# EAGLE library part ESB-33535A (library DPDTSwitch)
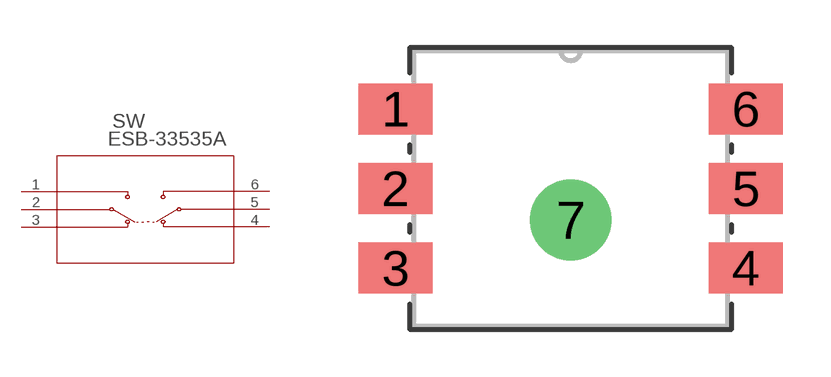
[diagram p0: symbol with the pads of ESB335_PAN; footprint ESB335_PAN]

Designator prefix SW

## ESB-33535A (BUILT_BY: EMA_Cory; COPYRIGHT: Copyright (C) 2018 Accelerated Designs. All rights reserved; DATASHEET: https://industrial.panasonic.com/ac/cdn/e/control/switch/push/catalog/sw_pu_eng_esb33.pdf; MANUFACTURER_PART_NUMBER: ESB-33535A; SOURCELIBRARY: Panasonic_2020-04-15; VENDOR: Panasonic)  [ESB335_PAN]
1  1  pas
2  2  pas
3  3  pas
4  4  pas
5  5  pas
6  6  pas

## Footprint ESB335_PAN (pad centres in mm)
smd 2.311 x 1.6: 1 -5.5,2.5; 2 -5.5,0; 3 -5.5,-2.5; 4 5.5,-2.5; 5 5.5,0; 6 5.5,2.5
drill 1.702 pad 2.21: 7 0,-0.991